# Altium footprint library IPC-7355 CQFP_Sq_127P_Side_N.PcbLib: 7 footprints
Each footprint in its own frame and in the unit in brackets; x right, y up, seen from the top. Pads: shape width x height; smd on the part's side, far side on the other; paste and mask are expansions set on the pad; w line width, h text height; cw(c..) or ccw(c..) is an arc to the next point about the centre after c.
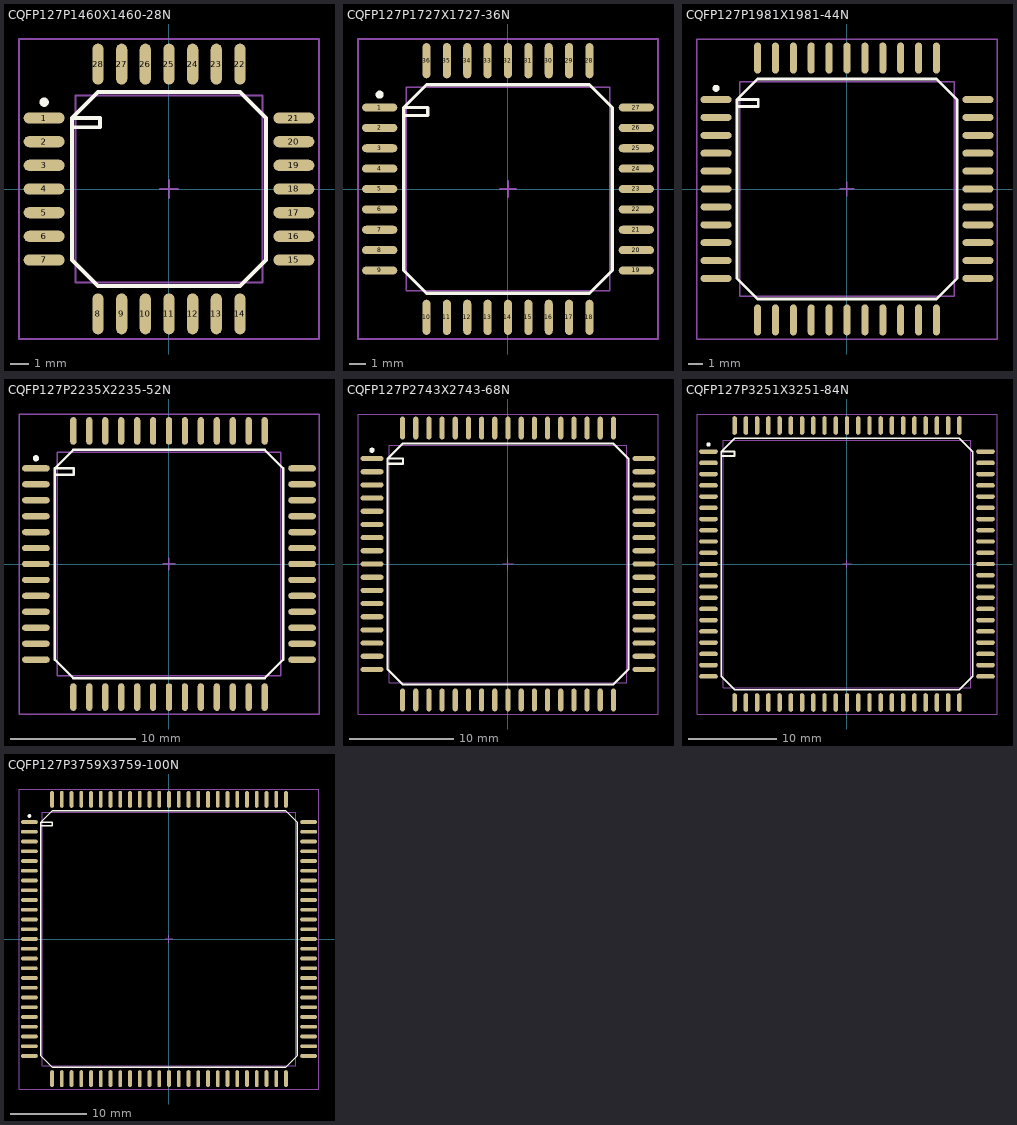
[diagram p0: the footprints below, top view; thin cyan lines are the x and y axes]

## CQFP127P1460X1460-28N [mm] "CQFP, 28-Leads, Body 10x10mm; Pitch 1.27mm, Gullwing Leadform, IPC Medium Density"
height 2.3
pads (28):
  oval 2.2x0.6 smd: 1(-6.7,3.81) 2(-6.7,2.54) 3(-6.7,1.27) 4(-6.7,0) 5(-6.7,-1.27) 6(-6.7,-2.54) 7(-6.7,-3.81) 15(6.7,-3.81) 16(6.7,-2.54) 17(6.7,-1.27) 18(6.7,0) 19(6.7,1.27) 20(6.7,2.54) 21(6.7,3.81)
  oval 0.6x2.2 smd: 8(-3.81,-6.7) 9(-2.54,-6.7) 10(-1.27,-6.7) 11(0,-6.7) 12(1.27,-6.7) 13(2.54,-6.7) 14(3.81,-6.7) 22(3.81,6.7) 23(2.54,6.7) 24(1.27,6.7) 25(0,6.7) 26(-1.27,6.7) 27(-2.54,6.7) 28(-3.81,6.7)
Top Overlay:
  circle w0.25: c-6.7,4.66 r0.125
  lines w0.2: -5.2,3.31 -3.7,3.31 -3.7,3.81 -5.2,3.81 ; -5.2,3.81 -3.81,5.2 3.81,5.2 5.2,3.81 5.2,-3.81 3.81,-5.2 -3.81,-5.2 -5.2,-3.81 -5.2,3.81
Mechanical 13:
  lines w0.1: -5.025,-5.025 5.025,-5.025 5.025,5.025 -5.025,5.025 -5.025,-5.025
Mechanical 15:
  lines w0.1: -0.5,0 0.5,0 ; 0,-0.5 0,0.5 ; -8.05,-8.05 8.05,-8.05 8.05,8.05 -8.05,8.05 -8.05,-8.05
3D body: height 2.3, standoff 0, extent -5.025,-5.025 5.025,5.025

## CQFP127P1727X1727-36N [mm] "CQFP, 36-Leads, Body 12x12mm; Pitch 1.27mm, Gullwing Leadform, IPC Medium Density"
height 5
pads (36):
  oval 2.2x0.5 smd: 1(-8,5.08) 2(-8,3.81) 3(-8,2.54) 4(-8,1.27) 5(-8,0) 6(-8,-1.27) 7(-8,-2.54) 8(-8,-3.81) 9(-8,-5.08) 19(8,-5.08) 20(8,-3.81) 21(8,-2.54) 22(8,-1.27) 23(8,0) 24(8,1.27) 25(8,2.54) 26(8,3.81) 27(8,5.08)
  oval 0.5x2.2 smd: 10(-5.08,-8) 11(-3.81,-8) 12(-2.54,-8) 13(-1.27,-8) 14(0,-8) 15(1.27,-8) 16(2.54,-8) 17(3.81,-8) 18(5.08,-8) 28(5.08,8) 29(3.81,8) 30(2.54,8) 31(1.27,8) 32(0,8) 33(-1.27,8) 34(-2.54,8) 35(-3.81,8) 36(-5.08,8)
Top Overlay:
  circle w0.25: c-8,5.88 r0.125
  lines w0.2: -6.5,4.58 -5,4.58 -5,5.08 -6.5,5.08 ; -6.5,5.08 -5.08,6.5 5.08,6.5 6.5,5.08 6.5,-5.08 5.08,-6.5 -5.08,-6.5 -6.5,-5.08 -6.5,5.08
Mechanical 13:
  lines w0.1: -6.35,-6.35 6.35,-6.35 6.35,6.35 -6.35,6.35 -6.35,-6.35
Mechanical 15:
  lines w0.1: -0.5,0 0.5,0 ; 0,-0.5 0,0.5 ; -9.35,-9.35 9.35,-9.35 9.35,9.35 -9.35,9.35 -9.35,-9.35
3D body: height 5, standoff 0, extent -6.35,-6.35 6.35,6.35

## CQFP127P1981X1981-44N [mm] "CQFP, 44-Leads, Body 15x15mm; Pitch 1.27mm, Gullwing Leadform, IPC Medium Density"
height 5
pads (44):
  oval 2.2x0.5 smd: 1(-9.3,6.35) 2(-9.3,5.08) 3(-9.3,3.81) 4(-9.3,2.54) 5(-9.3,1.27) 6(-9.3,0) 7(-9.3,-1.27) 8(-9.3,-2.54) 9(-9.3,-3.81) 10(-9.3,-5.08) 11(-9.3,-6.35) 23(9.3,-6.35) 24(9.3,-5.08) 25(9.3,-3.81) 26(9.3,-2.54) 27(9.3,-1.27) 28(9.3,0) 29(9.3,1.27) 30(9.3,2.54) 31(9.3,3.81) 32(9.3,5.08) 33(9.3,6.35)
  oval 0.5x2.2 smd: 12(-6.35,-9.3) 13(-5.08,-9.3) 14(-3.81,-9.3) 15(-2.54,-9.3) 16(-1.27,-9.3) 17(0,-9.3) 18(1.27,-9.3) 19(2.54,-9.3) 20(3.81,-9.3) 21(5.08,-9.3) 22(6.35,-9.3) 34(6.35,9.3) 35(5.08,9.3) 36(3.81,9.3) 37(2.54,9.3) 38(1.27,9.3) 39(0,9.3) 40(-1.27,9.3) 41(-2.54,9.3) 42(-3.81,9.3) 43(-5.08,9.3) 44(-6.35,9.3)
Top Overlay:
  circle w0.25: c-9.3,7.15 r0.125
  lines w0.2: -7.8,5.85 -6.3,5.85 -6.3,6.35 -7.8,6.35 ; -7.8,6.35 -6.35,7.8 6.35,7.8 7.8,6.35 7.8,-6.35 6.35,-7.8 -6.35,-7.8 -7.8,-6.35 -7.8,6.35
Mechanical 13:
  lines w0.1: -7.62,-7.62 7.62,-7.62 7.62,7.62 -7.62,7.62 -7.62,-7.62
Mechanical 15:
  lines w0.1: -0.5,0 0.5,0 ; 0,-0.5 0,0.5 ; -10.65,-10.65 10.65,-10.65 10.65,10.65 -10.65,10.65 -10.65,-10.65
3D body: height 5, standoff 0, extent -7.62,-7.62 7.62,7.62

## CQFP127P2235X2235-52N [mm] "CQFP, 52-Leads, Body 17x17mm; Pitch 1.27mm, Gullwing Leadform, IPC Medium Density"
height 5
pads (52):
  oval 2.2x0.5 smd: 1(-10.6,7.62) 2(-10.6,6.35) 3(-10.6,5.08) 4(-10.6,3.81) 5(-10.6,2.54) 6(-10.6,1.27) 7(-10.6,0) 8(-10.6,-1.27) 9(-10.6,-2.54) 10(-10.6,-3.81) 11(-10.6,-5.08) 12(-10.6,-6.35) 13(-10.6,-7.62) 27(10.6,-7.62) 28(10.6,-6.35) 29(10.6,-5.08) 30(10.6,-3.81) 31(10.6,-2.54) 32(10.6,-1.27) 33(10.6,0) 34(10.6,1.27) 35(10.6,2.54) 36(10.6,3.81) 37(10.6,5.08) 38(10.6,6.35) 39(10.6,7.62)
  oval 0.5x2.2 smd: 14(-7.62,-10.6) 15(-6.35,-10.6) 16(-5.08,-10.6) 17(-3.81,-10.6) 18(-2.54,-10.6) 19(-1.27,-10.6) 20(0,-10.6) 21(1.27,-10.6) 22(2.54,-10.6) 23(3.81,-10.6) 24(5.08,-10.6) 25(6.35,-10.6) 26(7.62,-10.6) 40(7.62,10.6) 41(6.35,10.6) 42(5.08,10.6) 43(3.81,10.6) 44(2.54,10.6) 45(1.27,10.6) 46(0,10.6) 47(-1.27,10.6) 48(-2.54,10.6) 49(-3.81,10.6) 50(-5.08,10.6) 51(-6.35,10.6) 52(-7.62,10.6)
Top Overlay:
  circle w0.25: c-10.6,8.42 r0.125
  lines w0.2: -9.1,7.12 -7.6,7.12 -7.6,7.62 -9.1,7.62 ; -9.1,7.62 -7.62,9.1 7.62,9.1 9.1,7.62 9.1,-7.62 7.62,-9.1 -7.62,-9.1 -9.1,-7.62 -9.1,7.62
Mechanical 13:
  lines w0.1: -8.89,-8.89 8.89,-8.89 8.89,8.89 -8.89,8.89 -8.89,-8.89
Mechanical 15:
  lines w0.1: -0.5,0 0.5,0 ; 0,-0.5 0,0.5 ; -11.95,-11.95 11.95,-11.95 11.95,11.95 -11.95,11.95 -11.95,-11.95
3D body: height 5, standoff 0, extent -8.89,-8.89 8.89,8.89

## CQFP127P2743X2743-68N [mm] "CQFP, 68-Leads, Body 22x22mm; Pitch 1.27mm, Gullwing Leadform, IPC Medium Density"
height 5
pads (68):
  oval 2.2x0.5 smd: 1(-13.1,10.16) 2(-13.1,8.89) 3(-13.1,7.62) 4(-13.1,6.35) 5(-13.1,5.08) 6(-13.1,3.81) 7(-13.1,2.54) 8(-13.1,1.27) 9(-13.1,0) 10(-13.1,-1.27) 11(-13.1,-2.54) 12(-13.1,-3.81) 13(-13.1,-5.08) 14(-13.1,-6.35) 15(-13.1,-7.62) 16(-13.1,-8.89) 17(-13.1,-10.16) 35(13.1,-10.16) 36(13.1,-8.89) 37(13.1,-7.62) 38(13.1,-6.35) 39(13.1,-5.08) 40(13.1,-3.81) 41(13.1,-2.54) 42(13.1,-1.27) 43(13.1,0) 44(13.1,1.27) 45(13.1,2.54) 46(13.1,3.81) 47(13.1,5.08) 48(13.1,6.35) 49(13.1,7.62) 50(13.1,8.89) 51(13.1,10.16)
  oval 0.5x2.2 smd: 18(-10.16,-13.1) 19(-8.89,-13.1) 20(-7.62,-13.1) 21(-6.35,-13.1) 22(-5.08,-13.1) 23(-3.81,-13.1) 24(-2.54,-13.1) 25(-1.27,-13.1) 26(0,-13.1) 27(1.27,-13.1) 28(2.54,-13.1) 29(3.81,-13.1) 30(5.08,-13.1) 31(6.35,-13.1) 32(7.62,-13.1) 33(8.89,-13.1) 34(10.16,-13.1) 52(10.16,13.1) 53(8.89,13.1) 54(7.62,13.1) 55(6.35,13.1) 56(5.08,13.1) 57(3.81,13.1) 58(2.54,13.1) 59(1.27,13.1) 60(0,13.1) 61(-1.27,13.1) 62(-2.54,13.1) 63(-3.81,13.1) 64(-5.08,13.1) 65(-6.35,13.1) 66(-7.62,13.1) 67(-8.89,13.1) 68(-10.16,13.1)
Top Overlay:
  circle w0.25: c-13.1,10.96 r0.125
  lines w0.2: -11.6,9.66 -10.1,9.66 -10.1,10.16 -11.6,10.16 ; -11.6,10.16 -11.6,-10.16 -10.16,-11.6 10.16,-11.6 11.6,-10.16 11.6,10.16 10.16,11.6 -10.16,11.6 -11.6,10.16
Mechanical 13:
  lines w0.1: -11.43,-11.43 -11.43,11.43 11.43,11.43 11.43,-11.43 -11.43,-11.43
Mechanical 15:
  lines w0.1: -0.5,0 0.5,0 ; 0,-0.5 0,0.5 ; -14.45,-14.45 -14.45,14.45 14.45,14.45 14.45,-14.45 -14.45,-14.45
3D body: height 5, standoff 0, extent -11.43,-11.43 11.43,11.43

## CQFP127P3251X3251-84N [mm] "CQFP, 84-Leads, Body 27x27mm; Pitch 1.27mm, Gullwing Leadform, IPC Medium Density"
height 5
pads (84):
  oval 2.1x0.5 smd: 1(-15.65,12.7) 2(-15.65,11.43) 3(-15.65,10.16) 4(-15.65,8.89) 5(-15.65,7.62) 6(-15.65,6.35) 7(-15.65,5.08) 8(-15.65,3.81) 9(-15.65,2.54) 10(-15.65,1.27) 11(-15.65,0) 12(-15.65,-1.27) 13(-15.65,-2.54) 14(-15.65,-3.81) 15(-15.65,-5.08) 16(-15.65,-6.35) 17(-15.65,-7.62) 18(-15.65,-8.89) 19(-15.65,-10.16) 20(-15.65,-11.43) 21(-15.65,-12.7) 43(15.65,-12.7) 44(15.65,-11.43) 45(15.65,-10.16) 46(15.65,-8.89) 47(15.65,-7.62) 48(15.65,-6.35) 49(15.65,-5.08) 50(15.65,-3.81) 51(15.65,-2.54) 52(15.65,-1.27) 53(15.65,0) 54(15.65,1.27) 55(15.65,2.54) 56(15.65,3.81) 57(15.65,5.08) 58(15.65,6.35) 59(15.65,7.62) 60(15.65,8.89) 61(15.65,10.16) 62(15.65,11.43) 63(15.65,12.7)
  oval 0.5x2.1 smd: 22(-12.7,-15.65) 23(-11.43,-15.65) 24(-10.16,-15.65) 25(-8.89,-15.65) 26(-7.62,-15.65) 27(-6.35,-15.65) 28(-5.08,-15.65) 29(-3.81,-15.65) 30(-2.54,-15.65) 31(-1.27,-15.65) 32(0,-15.65) 33(1.27,-15.65) 34(2.54,-15.65) 35(3.81,-15.65) 36(5.08,-15.65) 37(6.35,-15.65) 38(7.62,-15.65) 39(8.89,-15.65) 40(10.16,-15.65) 41(11.43,-15.65) 42(12.7,-15.65) 64(12.7,15.65) 65(11.43,15.65) 66(10.16,15.65) 67(8.89,15.65) 68(7.62,15.65) 69(6.35,15.65) 70(5.08,15.65) 71(3.81,15.65) 72(2.54,15.65) 73(1.27,15.65) 74(0,15.65) 75(-1.27,15.65) 76(-2.54,15.65) 77(-3.81,15.65) 78(-5.08,15.65) 79(-6.35,15.65) 80(-7.62,15.65) 81(-8.89,15.65) 82(-10.16,15.65) 83(-11.43,15.65) 84(-12.7,15.65)
Top Overlay:
  circle w0.25: c-15.65,13.5 r0.125
  lines w0.2: -14.2,12.2 -12.7,12.2 -12.7,12.7 -14.2,12.7 ; -14.2,12.7 -14.2,-12.7 -12.7,-14.2 12.7,-14.2 14.2,-12.7 14.2,12.7 12.7,14.2 -12.7,14.2 -14.2,12.7
Mechanical 13:
  lines w0.1: -13.97,-13.97 -13.97,13.97 13.97,13.97 13.97,-13.97 -13.97,-13.97
Mechanical 15:
  lines w0.1: -0.5,0 0.5,0 ; 0,-0.5 0,0.5 ; -16.95,-16.95 -16.95,16.95 16.95,16.95 16.95,-16.95 -16.95,-16.95
3D body: height 5, standoff 0, extent -13.97,-13.97 13.97,13.97

## CQFP127P3759X3759-100N [mm] "CQFP, 100-Leads, Body 33x33mm; Pitch 1.27mm, Gullwing Leadform, IPC Medium Density"
height 5
pads (100):
  oval 2.2x0.5 smd: 1(-18.2,15.24) 2(-18.2,13.97) 3(-18.2,12.7) 4(-18.2,11.43) 5(-18.2,10.16) 6(-18.2,8.89) 7(-18.2,7.62) 8(-18.2,6.35) 9(-18.2,5.08) 10(-18.2,3.81) 11(-18.2,2.54) 12(-18.2,1.27) 13(-18.2,0) 14(-18.2,-1.27) 15(-18.2,-2.54) 16(-18.2,-3.81) 17(-18.2,-5.08) 18(-18.2,-6.35) 19(-18.2,-7.62) 20(-18.2,-8.89) 21(-18.2,-10.16) 22(-18.2,-11.43) 23(-18.2,-12.7) 24(-18.2,-13.97) 25(-18.2,-15.24) 51(18.2,-15.24) 52(18.2,-13.97) 53(18.2,-12.7) 54(18.2,-11.43) 55(18.2,-10.16) 56(18.2,-8.89) 57(18.2,-7.62) 58(18.2,-6.35) 59(18.2,-5.08) 60(18.2,-3.81) 61(18.2,-2.54) 62(18.2,-1.27) 63(18.2,0) 64(18.2,1.27) 65(18.2,2.54) 66(18.2,3.81) 67(18.2,5.08) 68(18.2,6.35) 69(18.2,7.62) 70(18.2,8.89) 71(18.2,10.16) 72(18.2,11.43) 73(18.2,12.7) 74(18.2,13.97) 75(18.2,15.24)
  oval 0.5x2.2 smd: 26(-15.24,-18.2) 27(-13.97,-18.2) 28(-12.7,-18.2) 29(-11.43,-18.2) 30(-10.16,-18.2) 31(-8.89,-18.2) 32(-7.62,-18.2) 33(-6.35,-18.2) 34(-5.08,-18.2) 35(-3.81,-18.2) 36(-2.54,-18.2) 37(-1.27,-18.2) 38(0,-18.2) 39(1.27,-18.2) 40(2.54,-18.2) 41(3.81,-18.2) 42(5.08,-18.2) 43(6.35,-18.2) 44(7.62,-18.2) 45(8.89,-18.2) 46(10.16,-18.2) 47(11.43,-18.2) 48(12.7,-18.2) 49(13.97,-18.2) 50(15.24,-18.2) 76(15.24,18.2) 77(13.97,18.2) 78(12.7,18.2) 79(11.43,18.2) 80(10.16,18.2) 81(8.89,18.2) 82(7.62,18.2) 83(6.35,18.2) 84(5.08,18.2) 85(3.81,18.2) 86(2.54,18.2) 87(1.27,18.2) 88(0,18.2) 89(-1.27,18.2) 90(-2.54,18.2) 91(-3.81,18.2) 92(-5.08,18.2) 93(-6.35,18.2) 94(-7.62,18.2) 95(-8.89,18.2) 96(-10.16,18.2) 97(-11.43,18.2) 98(-12.7,18.2) 99(-13.97,18.2) 100(-15.24,18.2)
Top Overlay:
  circle w0.25: c-18.2,16.04 r0.125
  lines w0.2: -16.7,14.74 -15.2,14.74 -15.2,15.24 -16.7,15.24 ; -16.7,15.24 -15.24,16.7 15.24,16.7 16.7,15.24 16.7,-15.24 15.24,-16.7 -15.24,-16.7 -16.7,-15.24 -16.7,15.24
Mechanical 13:
  lines w0.1: -16.51,-16.51 16.51,-16.51 16.51,16.51 -16.51,16.51 -16.51,-16.51
Mechanical 15:
  lines w0.1: -0.5,0 0.5,0 ; 0,-0.5 0,0.5 ; -19.55,-19.55 19.55,-19.55 19.55,19.55 -19.55,19.55 -19.55,-19.55
3D body: height 5, standoff 0, extent -16.51,-16.51 16.51,16.51